# Altium schematic symbol library Altium Demo - Symbol Wizard.SchLib: 3 symbols
Pins are listed as number, name and electrical type; pins without a type are passive.

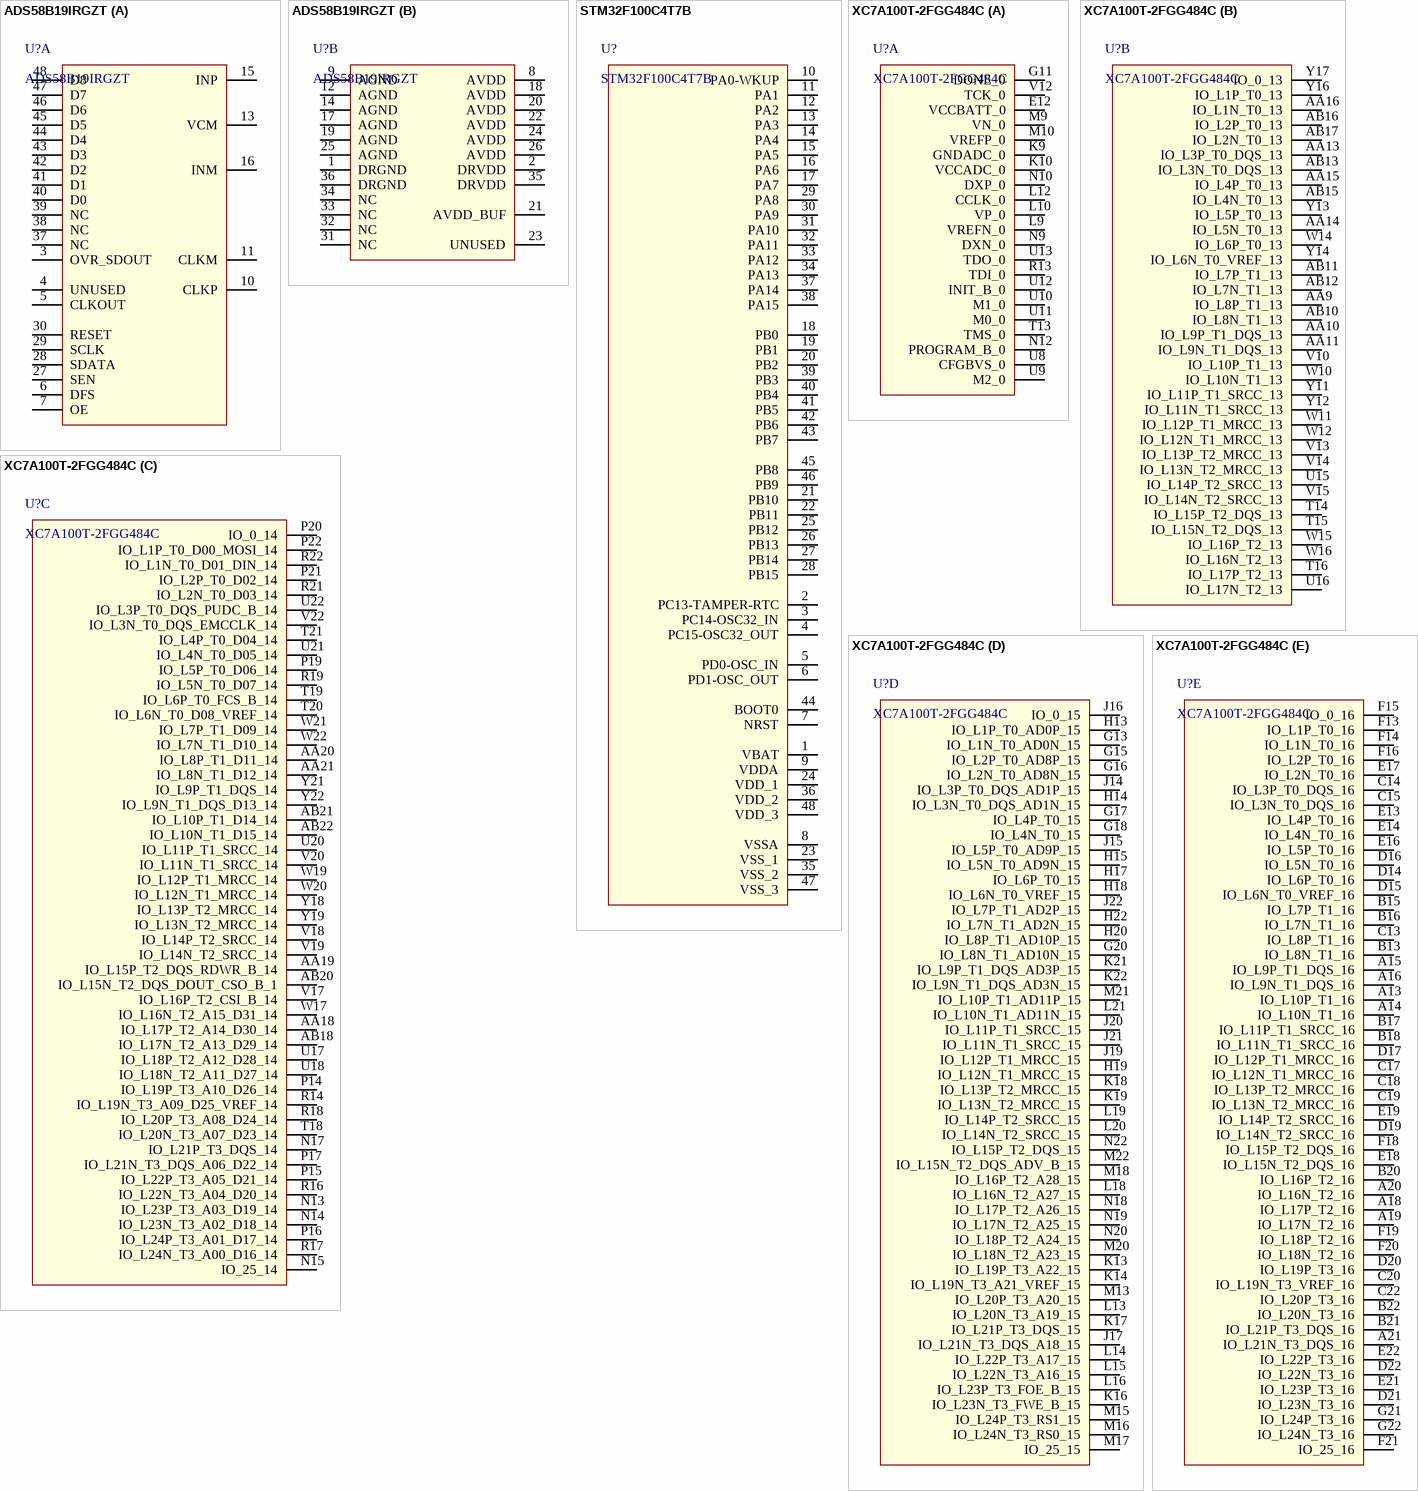
[diagram p0: symbols ADS58B19IRGZT to XC7A100T-2FGG484C]

## ADS58B19IRGZT
designator U?
IC ADC 9BIT 250MSPS 48VQFN; Manufacturer: Texas Instruments; Power Consumption: 287mW; Interface: LVDS,Parallel; Number of Bits: 9; Sampling Rate: 250000000S/s; Number of Converters: 1; Resolution: 14b; Min Supply Voltage: 1.7V; Max Supply Voltage: 1.9V; Integral Nonlinearity (INL): 1.2LSB; Signal to Noise Ratio (SNR): 66dB; Supply Type: Analog,Digital; Conversion Rate: 200MS/s; Max Power Dissipation: 10mW; Supplier 1: Digi-Key; Manufacturer Part Number: ADS58B19IRGZT; RoHS: Yes; Category: Analog to Digital Converters (ADCs); Stock 1: 142; Pricing 1: 1=28.19000, 10=26.00200, 25=24.83360, 100=21.18160 (USD); Mount: Surface Mount; Case/Package: VQFN; Number of Pins: 48; Contact Plating: Gold; Min Operating Temperature: -40°C; Max Operating Temperature: 85°C; Number of Analog Inputs: 1; Power Dissipation: 287mW; Number of A/D Converters: 1; Number of Inputs: 1; Packaging: Tape and Reel; Package Quantity: 250; Number of Channels: 1; Lead Free: Lead Free; ComponentLink1URL: https://datasheet.ciiva.com/14259/sbas487d-14259706.pdf?src-supplier=Avnet; ComponentLink1Description: https://datasheet.ciiva.com/14259/sbas487d-14259706.pdf?src-supplier=Avnet; ComponentLink2URL: https://datasheet.ciiva.com/1310/ads58b18-1310156.pdf?src-supplier=Digi-Key; ComponentLink2Description: https://datasheet.ciiva.com/1310/ads58b18-1310156.pdf?src-supplier=Digi-Key; ComponentLink3URL: https://datasheet.ciiva.com/1310/ads58b18-1310157.pdf?src-supplier=Digi-Key; ComponentLink3Description: https://datasheet.ciiva.com/1310/ads58b18-1310157.pdf?src-supplier=Digi-Key; ComponentLink4URL: https://datasheet.ciiva.com/1310/ads58b18-1310158.pdf?src-supplier=Digi-Key; ComponentLink4Description: https://datasheet.ciiva.com/1310/ads58b18-1310158.pdf?src-supplier=Digi-Key; Supplier Part Number 1: 296-28296-1-ND
part A pins: 3 OVR_SDOUT, 4 UNUSED, 5 CLKOUT, 6 DFS, 7 OE, 10 CLKP, 11 CLKM, 13 VCM, 15 INP, 16 INM, 27 SEN, 28 SDATA, 29 SCLK, 30 RESET, 37 NC, 38 NC, 39 NC, 40 D0, 41 D1, 42 D2, 43 D3, 44 D4, 45 D5, 46 D6, 47 D7, 48 D8
part B pins: 1 DRGND, 2 DRVDD, 8 AVDD, 9 AGND, 12 AGND, 14 AGND, 17 AGND, 18 AVDD, 19 AGND, 20 AVDD, 21 AVDD_BUF, 22 AVDD, 23 UNUSED, 24 AVDD, 25 AGND, 26 AVDD, 31 NC, 32 NC, 33 NC, 34 NC, 35 DRVDD, 36 DRGND

## STM32F100C4T7B
designator U?
Manufacturer: STMicroelectronics; Description: MCU 32-bit STM32F ARM Cortex M3 RISC 16KB Flash 2.5V/3.3V 48-Pin LQFP; Max Supply Voltage: 3.6V; Frequency: 24MHz; Min Supply Voltage: 2V; RAM Size: 4KB; Max Power Dissipation: 363mW; Interface: I2C,SPI,IrDA,UART,USART,LIN; Number of I/Os: 37; Number of Timers/Counters: 6; Oscillator Type: Internal; Data Bus Width: 32b; Number of ADC Channels: 10; Number of SPI Channels: 1; Watchdog Timer: Yes; Memory Type: FLASH; Memory Size: 16KB; Peripherals: POR,PWM,WDT,DMA,Temp Sensor; Core Architecture: ARM; Speed Grade: -2; Number of Logic Blocks (LABs): 7925; Number of Logic Elements/Cells: 101440; Number of Registers: 126800; Manufacturer Part Number: STM32F100C4T7B; RoHS: Yes; Category: Microcontrollers; Stock 1: 1480; Pricing 1: 1=3.50000, 10=3.14600, 25=2.97440, 80=2.57775, 250=2.44556, 500=2.19440, 1000=1.85070, 2500=1.75816, 5000=1.69206 (USD); Case/Package: LQFP; Number of Pins: 48; Min Operating Temperature: -40°C; Max Operating Temperature: 105°C; Package Quantity: 250; Packaging: Tray; Number of PWM Channels: 6; Number of Programmable I/O: 37; Max Frequency: 24MHz; Number of I2C Channels: 1; Length: 7.2mm; Width: 7.2mm; Height: 1.45mm; Radiation Hardening: No; REACH SVHC: No SVHC; ComponentLink1URL: https://datasheet.ciiva.com/8054/1690143-8054876.pdf?src-supplier=Element14; ComponentLink1Description: https://datasheet.ciiva.com/8054/1690143-8054876.pdf?src-supplier=Element14; ComponentLink2URL: https://datasheet.ciiva.com/17377/cd00251732-17377967.pdf?src-supplier=Avnet+Europe; ComponentLink2Description: https://datasheet.ciiva.com/17377/cd00251732-17377967.pdf?src-supplier=Avnet+Europe; Stock 2: 238; Pricing 2: 1=146.90000 (USD); ComponentLink3URL: https://datasheet.ciiva.com/15066/ds181-artix-7-data-sheet-15066361.pdf?src-supplier=Digi-Key; ComponentLink3Description: https://datasheet.ciiva.com/15066/ds181-artix-7-data-sheet-15066361.pdf?src-supplier=Digi-Key; ComponentLink4URL: https://datasheet.ciiva.com/48475/ds180-7series-overview-48475946.pdf?src-supplier=Avnet; ComponentLink4Description: https://datasheet.ciiva.com/48475/ds180-7series-overview-48475946.pdf?src-supplier=Avnet; Supplier 1: Digi-Key; Supplier Part Number 1: 497-17881-ND
pins: 1 VBAT, 2 PC13-TAMPER-RTC, 3 PC14-OSC32_IN, 4 PC15-OSC32_OUT, 5 PD0-OSC_IN, 6 PD1-OSC_OUT, 7 NRST, 8 VSSA, 9 VDDA, 10 PA0-WKUP, 11 PA1, 12 PA2, 13 PA3, 14 PA4, 15 PA5, 16 PA6, 17 PA7, 18 PB0, 19 PB1, 20 PB2, 21 PB10, 22 PB11, 23 VSS_1, 24 VDD_1, 25 PB12, 26 PB13, 27 PB14, 28 PB15, 29 PA8, 30 PA9, 31 PA10, 32 PA11, 33 PA12, 34 PA13, 35 VSS_2, 36 VDD_2, 37 PA14, 38 PA15, 39 PB3, 40 PB4, 41 PB5, 42 PB6, 43 PB7, 44 BOOT0, 45 PB8, 46 PB9, 47 VSS_3, 48 VDD_3

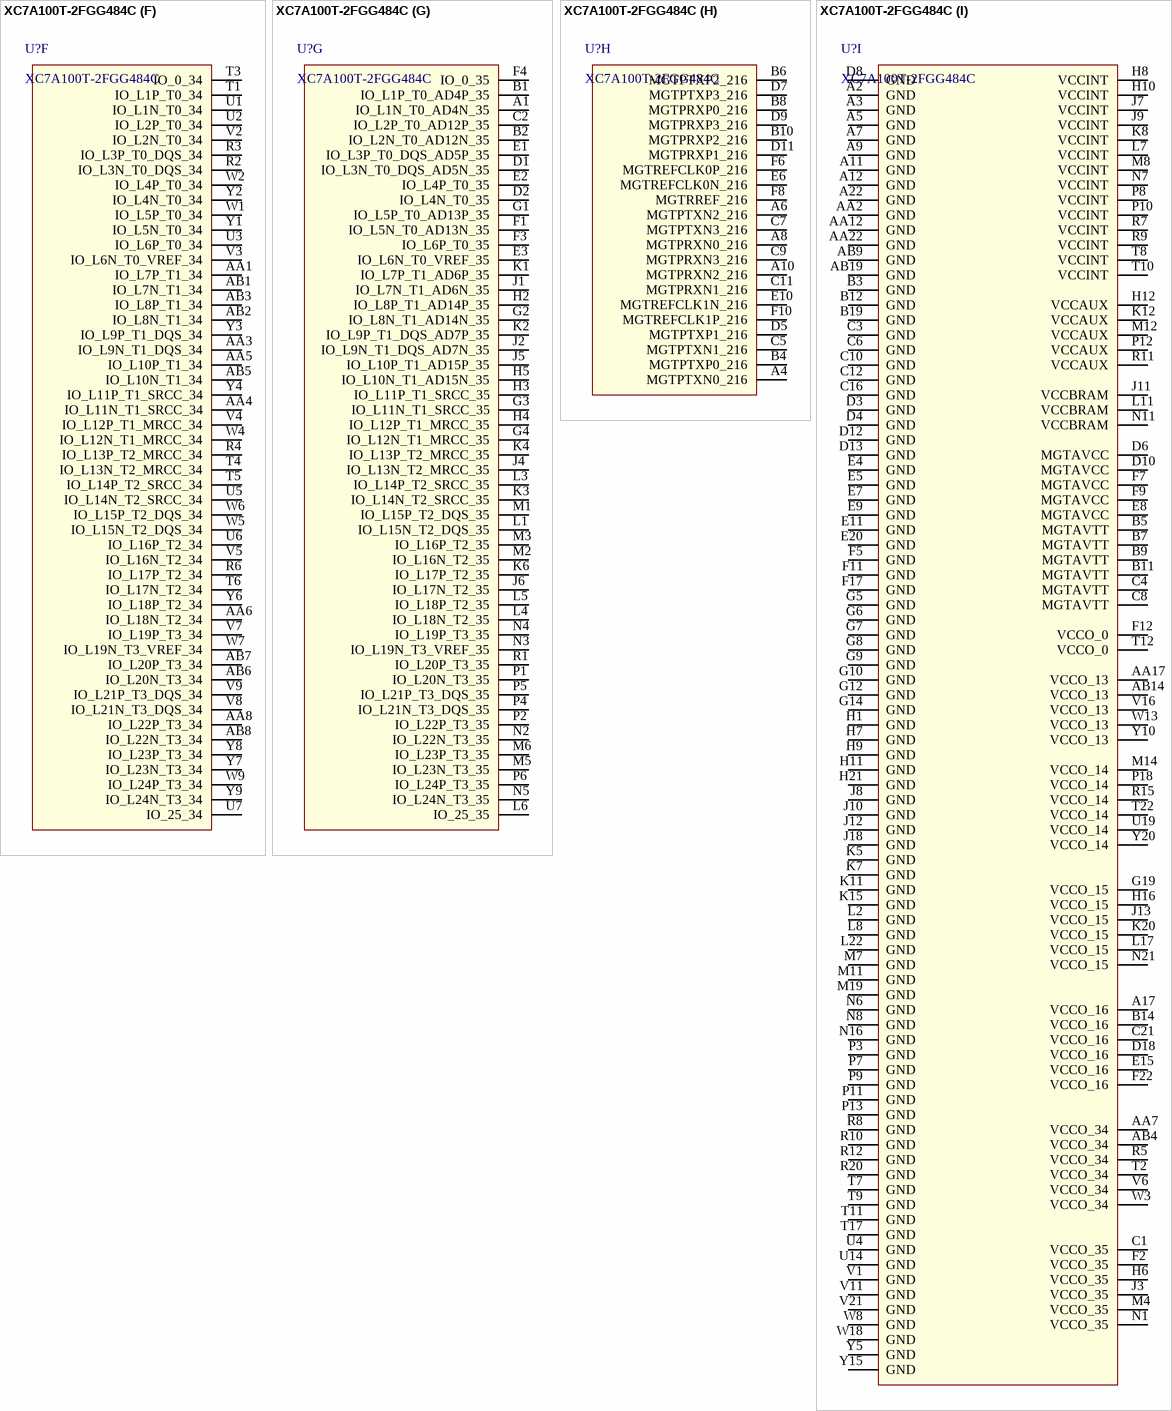
[diagram p1: symbol XC7A100T-2FGG484C]

## XC7A100T-2FGG484C
designator U?
IC FPGA 285 I/O 484FCBGA; Manufacturer: Xilinx; Speed Grade: -2; Number of Logic Blocks (LABs): 7925; Number of Logic Elements/Cells: 101440; RAM Size: 4976640b; Number of I/Os: 285; Number of Registers: 126800; Max Supply Voltage: 1.05V; Min Supply Voltage: 950mV; Supplier 1: Digi-Key; Manufacturer Part Number: XC7A100T-2FGG484C; RoHS: Yes; Category: FPGAs - Field Programmable Gate Arrays; Stock 1: 238; Pricing 1: 1=146.90000 (USD); Case/Package: FBGA; Number of Pins: 484; Min Operating Temperature: 0°C; Max Operating Temperature: 85°C; ComponentLink1URL: https://datasheet.ciiva.com/15066/ds181-artix-7-data-sheet-15066361.pdf?src-supplier=Digi-Key; ComponentLink1Description: https://datasheet.ciiva.com/15066/ds181-artix-7-data-sheet-15066361.pdf?src-supplier=Digi-Key; ComponentLink2URL: https://datasheet.ciiva.com/48475/ds180-7series-overview-48475946.pdf?src-supplier=Avnet; ComponentLink2Description: https://datasheet.ciiva.com/48475/ds180-7series-overview-48475946.pdf?src-supplier=Avnet; Supplier Part Number 1: 122-1880-ND
part A pins: E12 VCCBATT_0, G11 DONE_0, K9 GNDADC_0, K10 VCCADC_0, L9 VREFN_0, L10 VP_0, L12 CCLK_0, M9 VN_0, M10 VREFP_0, N9 DXN_0, N10 DXP_0, N12 PROGRAM_B_0, R13 TDI_0, T13 TMS_0, U8 CFGBVS_0, U9 M2_0, U10 M1_0, U11 M0_0, U12 INIT_B_0, U13 TDO_0, V12 TCK_0
part B pins: AA9 IO_L8P_T1_13, AA10 IO_L9P_T1_DQS_13, AA11 IO_L9N_T1_DQS_13, AA13 IO_L3P_T0_DQS_13, AA14 IO_L5N_T0_13, AA15 IO_L4P_T0_13, AA16 IO_L1N_T0_13, AB10 IO_L8N_T1_13, AB11 IO_L7P_T1_13, AB12 IO_L7N_T1_13, AB13 IO_L3N_T0_DQS_13, AB15 IO_L4N_T0_13, AB16 IO_L2P_T0_13, AB17 IO_L2N_T0_13, T14 IO_L15P_T2_DQS_13, T15 IO_L15N_T2_DQS_13, T16 IO_L17P_T2_13, U15 IO_L14P_T2_SRCC_13, U16 IO_L17N_T2_13, V10 IO_L10P_T1_13, V13 IO_L13P_T2_MRCC_13, V14 IO_L13N_T2_MRCC_13, V15 IO_L14N_T2_SRCC_13, W10 IO_L10N_T1_13, W11 IO_L12P_T1_MRCC_13, W12 IO_L12N_T1_MRCC_13, W14 IO_L6P_T0_13, W15 IO_L16P_T2_13, W16 IO_L16N_T2_13, Y11 IO_L11P_T1_SRCC_13, Y12 IO_L11N_T1_SRCC_13, Y13 IO_L5P_T0_13, Y14 IO_L6N_T0_VREF_13, Y16 IO_L1P_T0_13, Y17 IO_0_13
part C pins: AA18 IO_L17P_T2_A14_D30_14, AA19 IO_L15P_T2_DQS_RDWR_B_14, AA20 IO_L8P_T1_D11_14, AA21 IO_L8N_T1_D12_14, AB18 IO_L17N_T2_A13_D29_14, AB20 IO_L15N_T2_DQS_DOUT_CSO_B_1, AB21 IO_L10P_T1_D14_14, AB22 IO_L10N_T1_D15_14, N13 IO_L23P_T3_A03_D19_14, N14 IO_L23N_T3_A02_D18_14, N15 IO_25_14, N17 IO_L21P_T3_DQS_14, P14 IO_L19P_T3_A10_D26_14, P15 IO_L22P_T3_A05_D21_14, P16 IO_L24P_T3_A01_D17_14, P17 IO_L21N_T3_DQS_A06_D22_14, P19 IO_L5P_T0_D06_14, P20 IO_0_14, P21 IO_L2P_T0_D02_14, P22 IO_L1P_T0_D00_MOSI_14, R14 IO_L19N_T3_A09_D25_VREF_14, R16 IO_L22N_T3_A04_D20_14, R17 IO_L24N_T3_A00_D16_14, R18 IO_L20P_T3_A08_D24_14, R19 IO_L5N_T0_D07_14, R21 IO_L2N_T0_D03_14, R22 IO_L1N_T0_D01_DIN_14, T18 IO_L20N_T3_A07_D23_14, T19 IO_L6P_T0_FCS_B_14, T20 IO_L6N_T0_D08_VREF_14, T21 IO_L4P_T0_D04_14, U17 IO_L18P_T2_A12_D28_14, U18 IO_L18N_T2_A11_D27_14, U20 IO_L11P_T1_SRCC_14, U21 IO_L4N_T0_D05_14, U22 IO_L3P_T0_DQS_PUDC_B_14, V17 IO_L16P_T2_CSI_B_14, V18 IO_L14P_T2_SRCC_14, V19 IO_L14N_T2_SRCC_14, V20 IO_L11N_T1_SRCC_14, V22 IO_L3N_T0_DQS_EMCCLK_14, W17 IO_L16N_T2_A15_D31_14, W19 IO_L12P_T1_MRCC_14, W20 IO_L12N_T1_MRCC_14, W21 IO_L7P_T1_D09_14, W22 IO_L7N_T1_D10_14, Y18 IO_L13P_T2_MRCC_14, Y19 IO_L13N_T2_MRCC_14, Y21 IO_L9P_T1_DQS_14, Y22 IO_L9N_T1_DQS_D13_14
part D pins: G13 IO_L1N_T0_AD0N_15, G15 IO_L2P_T0_AD8P_15, G16 IO_L2N_T0_AD8N_15, G17 IO_L4P_T0_15, G18 IO_L4N_T0_15, G20 IO_L8N_T1_AD10N_15, H13 IO_L1P_T0_AD0P_15, H14 IO_L3N_T0_DQS_AD1N_15, H15 IO_L5N_T0_AD9N_15, H17 IO_L6P_T0_15, H18 IO_L6N_T0_VREF_15, H19 IO_L12N_T1_MRCC_15, H20 IO_L8P_T1_AD10P_15, H22 IO_L7N_T1_AD2N_15, J14 IO_L3P_T0_DQS_AD1P_15, J15 IO_L5P_T0_AD9P_15, J16 IO_0_15, J17 IO_L21N_T3_DQS_A18_15, J19 IO_L12P_T1_MRCC_15, J20 IO_L11P_T1_SRCC_15, J21 IO_L11N_T1_SRCC_15, J22 IO_L7P_T1_AD2P_15, K13 IO_L19P_T3_A22_15, K14 IO_L19N_T3_A21_VREF_15, K16 IO_L23N_T3_FWE_B_15, K17 IO_L21P_T3_DQS_15, K18 IO_L13P_T2_MRCC_15, K19 IO_L13N_T2_MRCC_15, K21 IO_L9P_T1_DQS_AD3P_15, K22 IO_L9N_T1_DQS_AD3N_15, L13 IO_L20N_T3_A19_15, L14 IO_L22P_T3_A17_15, L15 IO_L22N_T3_A16_15, L16 IO_L23P_T3_FOE_B_15, L18 IO_L16N_T2_A27_15, L19 IO_L14P_T2_SRCC_15, L20 IO_L14N_T2_SRCC_15, L21 IO_L10N_T1_AD11N_15, M13 IO_L20P_T3_A20_15, M15 IO_L24P_T3_RS1_15, M16 IO_L24N_T3_RS0_15, M17 IO_25_15, M18 IO_L16P_T2_A28_15, M20 IO_L18N_T2_A23_15, M21 IO_L10P_T1_AD11P_15, M22 IO_L15N_T2_DQS_ADV_B_15, N18 IO_L17P_T2_A26_15, N19 IO_L17N_T2_A25_15, N20 IO_L18P_T2_A24_15, N22 IO_L15P_T2_DQS_15
part E pins: A13 IO_L10P_T1_16, A14 IO_L10N_T1_16, A15 IO_L9P_T1_DQS_16, A16 IO_L9N_T1_DQS_16, A18 IO_L17P_T2_16, A19 IO_L17N_T2_16, A20 IO_L16N_T2_16, A21 IO_L21N_T3_DQS_16, B13 IO_L8N_T1_16, B15 IO_L7P_T1_16, B16 IO_L7N_T1_16, B17 IO_L11P_T1_SRCC_16, B18 IO_L11N_T1_SRCC_16, B20 IO_L16P_T2_16, B21 IO_L21P_T3_DQS_16, B22 IO_L20N_T3_16, C13 IO_L8P_T1_16, C14 IO_L3P_T0_DQS_16, C15 IO_L3N_T0_DQS_16, C17 IO_L12N_T1_MRCC_16, C18 IO_L13P_T2_MRCC_16, C19 IO_L13N_T2_MRCC_16, C20 IO_L19N_T3_VREF_16, C22 IO_L20P_T3_16, D14 IO_L6P_T0_16, D15 IO_L6N_T0_VREF_16, D16 IO_L5N_T0_16, D17 IO_L12P_T1_MRCC_16, D19 IO_L14N_T2_SRCC_16, D20 IO_L19P_T3_16, D21 IO_L23N_T3_16, D22 IO_L22N_T3_16, E13 IO_L4P_T0_16, E14 IO_L4N_T0_16, E16 IO_L5P_T0_16, E17 IO_L2N_T0_16, E18 IO_L15N_T2_DQS_16, E19 IO_L14P_T2_SRCC_16, E21 IO_L23P_T3_16, E22 IO_L22P_T3_16, F13 IO_L1P_T0_16, F14 IO_L1N_T0_16, F15 IO_0_16, F16 IO_L2P_T0_16, F18 IO_L15P_T2_DQS_16, F19 IO_L18P_T2_16, F20 IO_L18N_T2_16, F21 IO_25_16, G21 IO_L24P_T3_16, G22 IO_L24N_T3_16
part F pins: AA1 IO_L7P_T1_34, AA3 IO_L9N_T1_DQS_34, AA4 IO_L11N_T1_SRCC_34, AA5 IO_L10P_T1_34, AA6 IO_L18N_T2_34, AA8 IO_L22P_T3_34, AB1 IO_L7N_T1_34, AB2 IO_L8N_T1_34, AB3 IO_L8P_T1_34, AB5 IO_L10N_T1_34, AB6 IO_L20N_T3_34, AB7 IO_L20P_T3_34, AB8 IO_L22N_T3_34, R2 IO_L3N_T0_DQS_34, R3 IO_L3P_T0_DQS_34, R4 IO_L13P_T2_MRCC_34, R6 IO_L17P_T2_34, T1 IO_L1P_T0_34, T3 IO_0_34, T4 IO_L13N_T2_MRCC_34, T5 IO_L14P_T2_SRCC_34, T6 IO_L17N_T2_34, U1 IO_L1N_T0_34, U2 IO_L2P_T0_34, U3 IO_L6P_T0_34, U5 IO_L14N_T2_SRCC_34, U6 IO_L16P_T2_34, U7 IO_25_34, V2 IO_L2N_T0_34, V3 IO_L6N_T0_VREF_34, V4 IO_L12P_T1_MRCC_34, V5 IO_L16N_T2_34, V7 IO_L19P_T3_34, V8 IO_L21N_T3_DQS_34, V9 IO_L21P_T3_DQS_34, W1 IO_L5P_T0_34, W2 IO_L4P_T0_34, W4 IO_L12N_T1_MRCC_34, W5 IO_L15N_T2_DQS_34, W6 IO_L15P_T2_DQS_34, W7 IO_L19N_T3_VREF_34, W9 IO_L24P_T3_34, Y1 IO_L5N_T0_34, Y2 IO_L4N_T0_34, Y3 IO_L9P_T1_DQS_34, Y4 IO_L11P_T1_SRCC_34, Y6 IO_L18P_T2_34, Y7 IO_L23N_T3_34, Y8 IO_L23P_T3_34, Y9 IO_L24N_T3_34
part G pins: A1 IO_L1N_T0_AD4N_35, B1 IO_L1P_T0_AD4P_35, B2 IO_L2N_T0_AD12N_35, C2 IO_L2P_T0_AD12P_35, D1 IO_L3N_T0_DQS_AD5N_35, D2 IO_L4N_T0_35, E1 IO_L3P_T0_DQS_AD5P_35, E2 IO_L4P_T0_35, E3 IO_L6N_T0_VREF_35, F1 IO_L5N_T0_AD13N_35, F3 IO_L6P_T0_35, F4 IO_0_35, G1 IO_L5P_T0_AD13P_35, G2 IO_L8N_T1_AD14N_35, G3 IO_L11N_T1_SRCC_35, G4 IO_L12N_T1_MRCC_35, H2 IO_L8P_T1_AD14P_35, H3 IO_L11P_T1_SRCC_35, H4 IO_L12P_T1_MRCC_35, H5 IO_L10N_T1_AD15N_35, J1 IO_L7N_T1_AD6N_35, J2 IO_L9N_T1_DQS_AD7N_35, J4 IO_L13N_T2_MRCC_35, J5 IO_L10P_T1_AD15P_35, J6 IO_L17N_T2_35, K1 IO_L7P_T1_AD6P_35, K2 IO_L9P_T1_DQS_AD7P_35, K3 IO_L14N_T2_SRCC_35, K4 IO_L13P_T2_MRCC_35, K6 IO_L17P_T2_35, L1 IO_L15N_T2_DQS_35, L3 IO_L14P_T2_SRCC_35, L4 IO_L18N_T2_35, L5 IO_L18P_T2_35, L6 IO_25_35, M1 IO_L15P_T2_DQS_35, M2 IO_L16N_T2_35, M3 IO_L16P_T2_35, M5 IO_L23N_T3_35, M6 IO_L23P_T3_35, N2 IO_L22N_T3_35, N3 IO_L19N_T3_VREF_35, N4 IO_L19P_T3_35, N5 IO_L24N_T3_35, P1 IO_L20N_T3_35, P2 IO_L22P_T3_35, P4 IO_L21N_T3_DQS_35, P5 IO_L21P_T3_DQS_35, P6 IO_L24P_T3_35, R1 IO_L20P_T3_35
part H pins: A4 MGTPTXN0_216, A6 MGTPTXN2_216, A8 MGTPRXN0_216, A10 MGTPRXN2_216, B4 MGTPTXP0_216, B6 MGTPTXP2_216, B8 MGTPRXP0_216, B10 MGTPRXP2_216, C5 MGTPTXN1_216, C7 MGTPTXN3_216, C9 MGTPRXN3_216, C11 MGTPRXN1_216, D5 MGTPTXP1_216, D7 MGTPTXP3_216, D9 MGTPRXP3_216, D11 MGTPRXP1_216, E6 MGTREFCLK0N_216, E10 MGTREFCLK1N_216, F6 MGTREFCLK0P_216, F8 MGTRREF_216, F10 MGTREFCLK1P_216
part I pins: A2 GND, A3 GND, A5 GND, A7 GND, A9 GND, A11 GND, A12 GND, A17 VCCO_16, A22 GND, AA2 GND, AA7 VCCO_34, AA12 GND, AA17 VCCO_13, AA22 GND, AB4 VCCO_34, AB9 GND, AB14 VCCO_13, AB19 GND, B3 GND, B5 MGTAVTT, B7 MGTAVTT, B9 MGTAVTT, B11 MGTAVTT, B12 GND, B14 VCCO_16, B19 GND, C1 VCCO_35, C3 GND, C4 MGTAVTT, C6 GND, C8 MGTAVTT, C10 GND, C12 GND, C16 GND, C21 VCCO_16, D3 GND, D4 GND, D6 MGTAVCC, D8 GND, D10 MGTAVCC, D12 GND, D13 GND, D18 VCCO_16, E4 GND, E5 GND, E7 GND, E8 MGTAVCC, E9 GND, E11 GND, E15 VCCO_16, E20 GND, F2 VCCO_35, F5 GND, F7 MGTAVCC, F9 MGTAVCC, F11 GND, F12 VCCO_0, F17 GND, F22 VCCO_16, G5 GND, G6 GND, G7 GND, G8 GND, G9 GND, G10 GND, G12 GND, G14 GND, G19 VCCO_15, H1 GND, H6 VCCO_35, H7 GND, H8 VCCINT, H9 GND, H10 VCCINT, H11 GND, H12 VCCAUX, H16 VCCO_15, H21 GND, J3 VCCO_35, J7 VCCINT, J8 GND, J9 VCCINT, J10 GND, J11 VCCBRAM, J12 GND, J13 VCCO_15, J18 GND, K5 GND, K7 GND, K8 VCCINT, K11 GND, K12 VCCAUX, K15 GND, K20 VCCO_15, L2 GND, L7 VCCINT, L8 GND, L11 VCCBRAM, L17 VCCO_15, L22 GND, M4 VCCO_35, M7 GND, M8 VCCINT, M11 GND, M12 VCCAUX, M14 VCCO_14, M19 GND, N1 VCCO_35, N6 GND, N7 VCCINT, N8 GND, N11 VCCBRAM, N16 GND, N21 VCCO_15, P3 GND, P7 GND, P8 VCCINT, P9 GND, P10 VCCINT, P11 GND, P12 VCCAUX, P13 GND, P18 VCCO_14, R5 VCCO_34, R7 VCCINT, R8 GND, R9 VCCINT, R10 GND, R11 VCCAUX, R12 GND, R15 VCCO_14, R20 GND, T2 VCCO_34, T7 GND, T8 VCCINT, T9 GND, T10 VCCINT, T11 GND, T12 VCCO_0, T17 GND, T22 VCCO_14, U4 GND, U14 GND, U19 VCCO_14, V1 GND, V6 VCCO_34, V11 GND, V16 VCCO_13, V21 GND, W3 VCCO_34, W8 GND, W13 VCCO_13, W18 GND, Y5 GND, Y10 VCCO_13, Y15 GND, Y20 VCCO_14